# Altium integrated library Optogentics_Controller.IntLib: 5 symbols
Pins are listed as number, name and electrical type; pins without a type are passive.

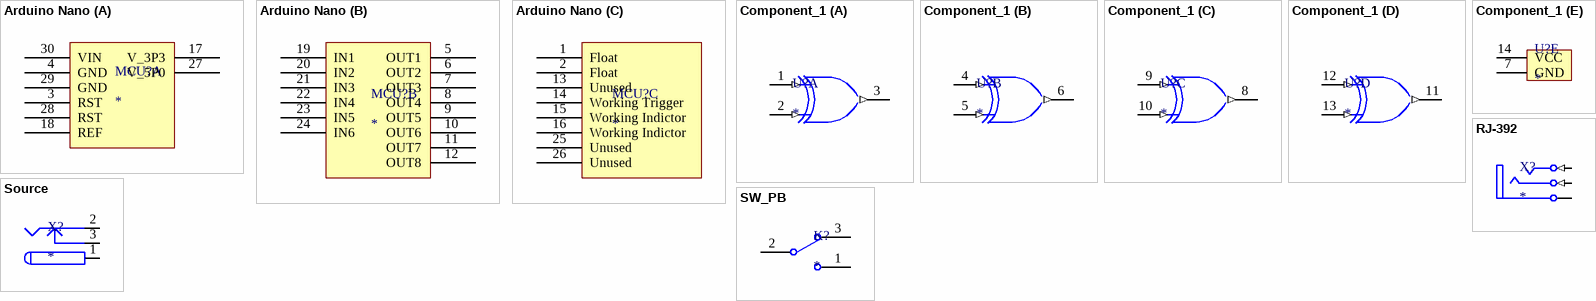
[diagram p0: symbols Arduino Nano to SW_PB]

## Arduino Nano
designator MCU?
footprint Arduino Nano
part A pins: 3 RST, 4 GND, 17 V_3P3, 18 REF, 27 V_5P0, 28 RST, 29 GND, 30 VIN
part B pins: 5 OUT1, 6 OUT2, 7 OUT3, 8 OUT4, 9 OUT5, 10 OUT6, 11 OUT7, 12 OUT8, 19 IN1, 20 IN2, 21 IN3, 22 IN4, 23 IN5, 24 IN6
part C pins: 1 Float, 2 Float, 13 Unused, 14 Working Trigger, 15 Working Indictor, 16 Working Indictor, 25 Unused, 26 Unused

## Component_1
designator U?
footprint MM74HC86
part A pins: 1 A1 (in), 2 B1 (in), 3 Y1 (out)
part B pins: 4 A2 (in), 5 B2 (in), 6 Y2 (out)
part C pins: 8 Y3 (out), 9 A3 (in), 10 B3 (in)
part D pins: 11 Y4 (out), 12 A4 (in), 13 B4 (in)
part E pins: 7 GND, 14 VCC

## RJ-392
designator X?
footprint Connectors
pins: 1 Pin1 (power) "Sleeve (Ground)", 2 Pin2 (in) "Tip/Left Channel/(+)", 3 Pin3 (in) "Ring/Right Channel/(-)"

## Source
designator X?
footprint PWR
pins: 1 (power), 2 (power), 2 (power), 3 (power), 3 (power)

## SW_PB
designator K?
footprint SW_PB
pins: 1 NO, 2 COM, 3 NC